# Altium footprint library PPTC082LFBN-RC.PcbLib: 1 footprints
Each footprint in its own frame and in the unit in brackets; x right, y up, seen from the top. Pads: shape width x height; smd on the part's side, far side on the other; paste and mask are expansions set on the pad; w line width, h text height; cw(c..) or ccw(c..) is an arc to the next point about the centre after c.
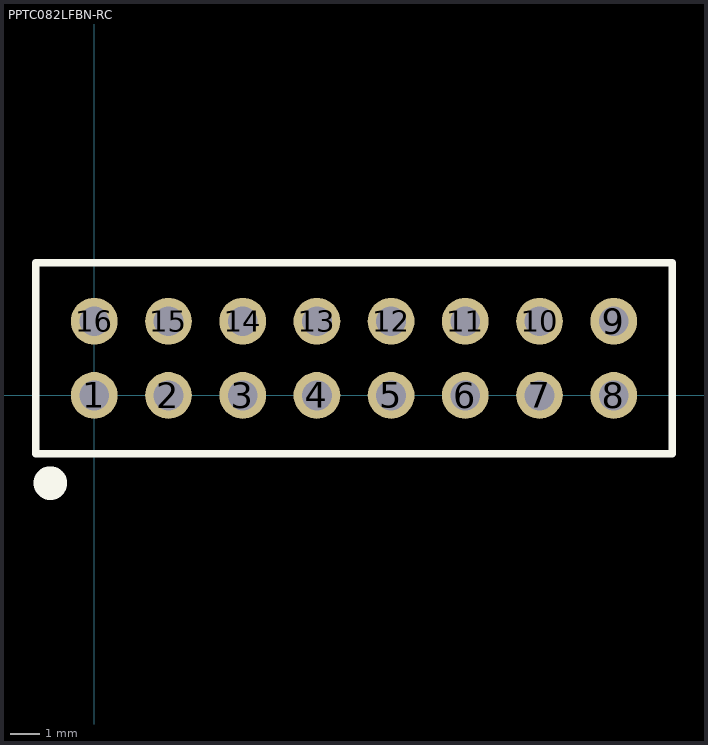
[diagram p0: the footprint, top view; thin cyan lines are the x and y axes]

## PPTC082LFBN-RC [mm] "2x8 header female"
pads (16):
  round 1.6 hole 1.02: 1(0,0) 2(2.54,0) 3(5.08,0) 4(7.62,0) 5(10.16,0) 6(12.7,0) 7(15.24,0) 8(17.78,0) 9(17.78,2.54) 10(15.24,2.54) 11(12.7,2.54) 12(10.16,2.54) 13(7.62,2.54) 14(5.08,2.54) 15(2.54,2.54) 16(0,2.54)
Top Overlay:
  circle w1: c-1.5,-3 r0.075
  lines w0.254: -2,-2 19.78,-2 19.78,4.54 -2,4.54 -2,-2
3D body "PPTC082LFBN-RC.STEP": height 8.5, standoff -3.2, extent -1.3,-1.2 19.52,3.8
3D body: height 5.5, standoff -6, extent 0,0 0,0